# EAGLE library part FL7734 (library fairchild-fl7734)
The FL7734 is a highly integrated PWM controller with advanced Primary-Side-Regulation (PSR) technique to minimize components for low power LED lighting solutions. Using the innovative TRUECURRENT technology for tight constant-current control, it enables designs with constant-current (CC) tolerance of less than ±1% in the wide line voltage range to meet stringent LED brightness. requirements. The library has been designed by Richard Magdycz <https://www.facebook.com/groups/eaglecadsoftUK>
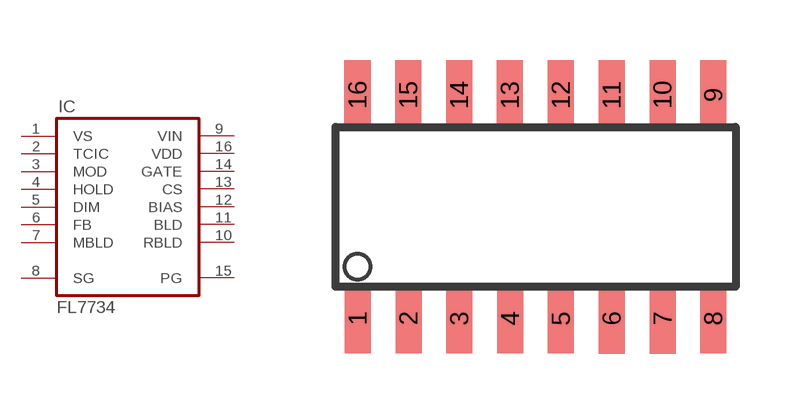
[diagram p0: symbol with the pads of SOP16; footprint SOP16]

Designator prefix IC

## FL7734  [SOP16]
1  VS  in
2  TCIC  in
3  MOD  in
4  HOLD  in
5  DIM  in
6  FB  out
7  MBLD  in
8  SG  pwr
9  VIN  in
10  RBLD  out
11  BLD  in
12  BIAS  in
13  CS  in
14  GATE  out
15  PG  pwr
16  VDD  pwr

## Footprint SOP16 (pad centres in mm)
SMALL OUTLINE PACKAGE
smd 0.65 x 1.75: 1 -4.445,-2.795; 2 -3.175,-2.795; 3 -1.905,-2.795; 4 -0.635,-2.795; 5 0.635,-2.795; 6 1.905,-2.8; 7 3.18,-2.8; 8 4.445,-2.795; 9 4.445,2.8; 10 3.175,2.8; 11 1.905,2.795; 12 0.635,2.795; 13 -0.64,2.795; 14 -1.91,2.795; 15 -3.18,2.8; 16 -4.45,2.795